# Altium footprint library SignalCommunications.PCBLIB: 466 footprints (part 24 of 30)
Each footprint in its own frame and in the unit in brackets; x right, y up, seen from the top. Pads: shape width x height; smd on the part's side, far side on the other; paste and mask are expansions set on the pad; w line width, h text height; cw(c..) or ccw(c..) is an arc to the next point about the centre after c.
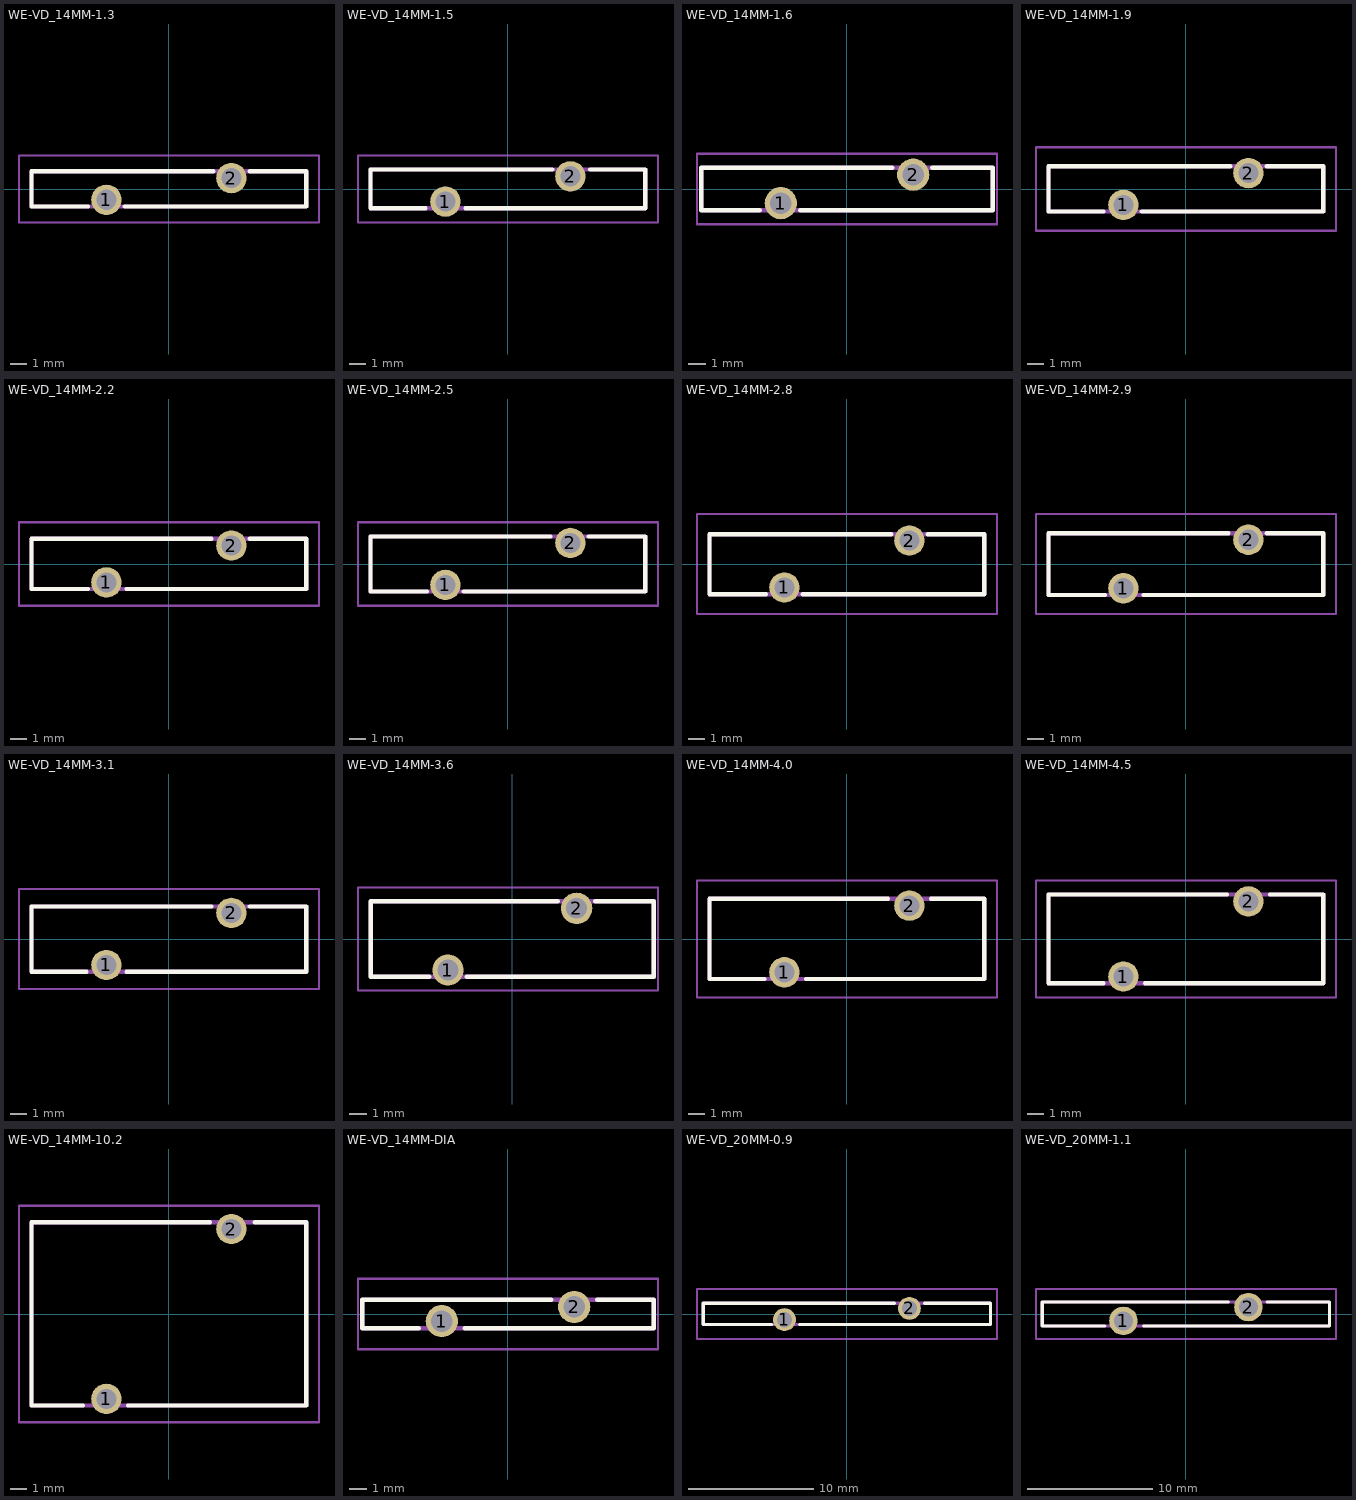
[diagram p23: the footprints below, top view; thin cyan lines are the x and y axes]

## WE-VD_14MM-1.3 [mil]
pads (2):
  round 72 hole 48: 1(-147.64,-25.59) 2(148,26)
Top Overlay:
  lines w10: -190.94,-41.34 -324.8,-41.34 -324.8,42 105,42 ; -104.33,-41.34 325,-41.34 325,42 191,42
Mechanical 16:
  lines w10: -324.8,38 -324.8,-41.34 325,-41.34 325,42 -324.8,42
Mechanical 27:
  lines w5: -354.33,-78.74 -354.33,79 355,79 355,-78.74 -354.33,-78.74

## WE-VD_14MM-1.5 [mil]
pads (2):
  round 72 hole 48: 1(-147.64,-29.53) 2(148,30)
Top Overlay:
  lines w10: -194.88,-45.28 -324.8,-45.28 -324.8,46 105,46 ; -100.39,-45.28 325,-45.28 325,46 195,46
Mechanical 16:
  lines w10: -324.8,-45.28 325,-45.28 325,46 -324.8,46 -324.8,-45.28
Mechanical 27:
  lines w5: -354.33,-78.74 355,-78.74 355,79 -354.33,79 -354.33,-78.74

## WE-VD_14MM-1.6 [mil]
pads (2):
  round 72 hole 48: 1(-147.64,-31.5) 2(148,32)
Top Overlay:
  lines w10: -194.88,-47.24 -324.8,-47.24 -324.8,48 101,48 ; -104.33,-47.24 325,-47.24 325,48 191,48
Mechanical 16:
  lines w10: -324.8,-47.24 -324.8,48 325,48 325,-47.24 -324.8,-47.24
Mechanical 27:
  lines w5: -334.65,-78.74 335,-78.74 335,79 -334.65,79 -334.65,-78.74

## WE-VD_14MM-1.9 [mil]
pads (2):
  round 72 hole 48: 1(-147.64,-37.4) 2(148,38)
Top Overlay:
  lines w10: -194.88,-53.15 -324.8,-53.15 -324.8,54 105,54 ; -104.33,-53.15 325,-53.15 325,54 191,54
Mechanical 16:
  lines w10: -324.8,-53.15 -324.8,54 325,54 325,-53.15 -324.8,-53.15
Mechanical 27:
  lines w5: -354.33,-98.43 355,-98.43 355,99 -354.33,99 -354.33,-98.43

## WE-VD_14MM-2.2 [mil]
pads (2):
  round 72 hole 48: 1(-147.64,-43.31) 2(148,44)
Top Overlay:
  lines w10: -190.94,-59.06 -324.8,-59.06 -324.8,60 101,60 ; -100.39,-59.06 325,-59.06 325,60 191,60
Mechanical 16:
  lines w10: -324.8,-59.06 -324.8,60 325,60 325,-59.06 -320.87,-59.06
Mechanical 27:
  lines w5: -354.33,-98.43 355,-98.43 355,99 -354.33,99 -354.33,-98.43

## WE-VD_14MM-2.5 [mil]
pads (2):
  round 72 hole 48: 1(-147.64,-49.21) 2(148,50)
Top Overlay:
  lines w10: -190.94,-64.96 -324.8,-64.96 -324.8,65 101,65 ; -104.33,-64.96 325,-64.96 325,65 191,65
Mechanical 16:
  lines w10: -324.8,65 -324.8,-64.96 325,-64.96 325,65 -320.87,65
Mechanical 27:
  lines w5: -354.33,-98.43 355,-98.43 355,99 -354.33,99 -354.33,-98.43

## WE-VD_14MM-2.8 [mil]
pads (2):
  round 72 hole 48: 1(-147.64,-55.12) 2(148,56)
Top Overlay:
  lines w10: -190.94,-70.87 -324.8,-70.87 -324.8,71 105,71 ; -104.33,-70.87 325,-70.87 325,71 191,71
Mechanical 16:
  lines w10: 321,71 -324.8,71 -324.8,-70.87 325,-70.87 325,71
Mechanical 27:
  lines w5: -354.33,-118.11 355,-118.11 355,119 -354.33,119 -354.33,-118.11

## WE-VD_14MM-2.9 [mil]
pads (2):
  round 72 hole 48: 1(-147.64,-57.09) 2(148,58)
Top Overlay:
  lines w10: -190.94,-72.83 -324.8,-72.83 -324.8,73 101,73 ; -100.39,-72.83 325,-72.83 325,73 191,73
Mechanical 16:
  lines w10: -324.8,73 -324.8,-72.83 325,-72.83 325,73 -320.87,73
Mechanical 27:
  lines w5: -354.33,-118.11 355,-118.11 355,119 -354.33,119 -354.33,-118.11

## WE-VD_14MM-3.1 [mil]
pads (2):
  round 72 hole 48: 1(-147.64,-61.02) 2(148,62)
Top Overlay:
  lines w10: -194.88,-76.77 -324.8,-76.77 -324.8,77 101,77 ; -100.39,-76.77 325,-76.77 325,77 191,77
Mechanical 16:
  lines w10: -324.8,-76.77 -324.8,77 325,77 325,-76.77 -324.8,-76.77
Mechanical 27:
  lines w5: -354.33,-118.11 355,-118.11 355,119 -354.33,119 -354.33,-118.11

## WE-VD_14MM-3.6 [mil]
pads (2):
  round 72 hole 48: 1(-147.64,-70.87) 2(148,71)
Top Overlay:
  lines w10: -190.94,-86.61 -324.8,-86.61 -324.8,87 105,87 ; -104.33,-86.61 325,-86.61 325,87 191,87
Mechanical 16:
  lines w10: -324.8,-86.61 325,-86.61 325,87 -324.8,87 -324.8,-86.61
Mechanical 27:
  lines w5: -354.33,-118.11 335,-118.11 335,119 -354.33,119 -354.33,-118.11

## WE-VD_14MM-4.0 [mil]
pads (2):
  round 72 hole 48: 1(-147.64,-78.74) 2(148,79)
Top Overlay:
  lines w10: -194.88,-94.49 -324.8,-94.49 -324.8,95 97,95 ; -96.46,-94.49 325,-94.49 325,95 199,95
Mechanical 16:
  lines w10: -324.8,-94.49 325,-94.49 325,95 -324.8,95 -324.8,-94.49
Mechanical 27:
  lines w5: -354.33,-137.8 355,-137.8 355,138 -354.33,138 -354.33,-137.8

## WE-VD_14MM-4.5 [mil]
pads (2):
  round 72 hole 48: 1(-147.64,-88.58) 2(148,89)
Top Overlay:
  lines w10: -194.88,-104.33 -324.8,-104.33 -324.8,105 97,105 ; -96.46,-104.33 325,-104.33 325,105 199,105
Mechanical 16:
  lines w10: -324.8,101 -324.8,-104.33 325,-104.33 325,105 -324.8,105
Mechanical 27:
  lines w5: -354.33,-137.8 355,-137.8 355,138 -354.33,138 -354.33,-137.8

## WE-VD_14MM-10.2 [mil]
pads (2):
  round 72 hole 48: 1(-147.64,-200.79) 2(148,201)
Top Overlay:
  lines w10: -202.76,-216.54 -324.8,-216.54 -324.8,217 97,217 ; -96.46,-216.54 325,-216.54 325,217 203,217
Mechanical 16:
  lines w10: -324.8,213 -324.8,-216.54 325,-216.54 325,217 -324.8,217
Mechanical 27:
  lines w5: -354.33,-255.91 355,-255.91 355,256 -354.33,256 -354.33,-255.91

## WE-VD_14MM-DIA [mil]
pads (2):
  round 72 hole 48: 1(-147.64,-15.75) 2(148,16)
Top Overlay:
  lines w10: -198.82,-31.5 -324.8,-31.5 -324.8,32 97,32 ; -96.46,-31.5 325,-31.5 325,32 199,32
Mechanical 16:
  lines w10: -324.8,-31.5 325,-31.5 325,32 -324.8,32 -324.8,-31.5
Mechanical 27:
  lines w5: -334.65,-78.74 335,-78.74 335,79 -334.65,79 -334.65,-78.74

## WE-VD_20MM-0.9 [mil]
pads (2):
  round 72 hole 48: 1(-196.85,-17.72) 2(197,18)
Top Overlay:
  lines w10: -236.22,-33.46 -452.76,-33.46 -452.76,34 150,34 ; -149.61,-33.46 453,-33.46 453,34 245,34
Mechanical 16:
  lines w10: -452.76,-33.46 453,-33.46 453,34 -452.76,34 -452.76,-33.46
Mechanical 27:
  lines w5: -472.44,-78.74 473,-78.74 473,79 -472.44,79 -472.44,-78.74

## WE-VD_20MM-1.1 [mil]
pads (2):
  round 90 hole 60: 1(-196.85,-21.65) 2(197,22)
Top Overlay:
  lines w10: -255.91,-37.4 -452.76,-37.4 -452.76,38 134,38 ; -133.86,-37.4 453,-37.4 453,38 256,38
Mechanical 16:
  lines w10: -452.76,-37.4 453,-37.4 453,38 -452.76,38 -452.76,-37.4
Mechanical 27:
  lines w5: -472.44,-78.74 473,-78.74 473,79 -472.44,79 -472.44,-78.74